# Altium footprint library RS0104YQ.PcbLib: 3 footprints
Each footprint in its own frame and in the unit in brackets; x right, y up, seen from the top. Pads: shape width x height; smd on the part's side, far side on the other; paste and mask are expansions set on the pad; w line width, h text height; cw(c..) or ccw(c..) is an arc to the next point about the centre after c.
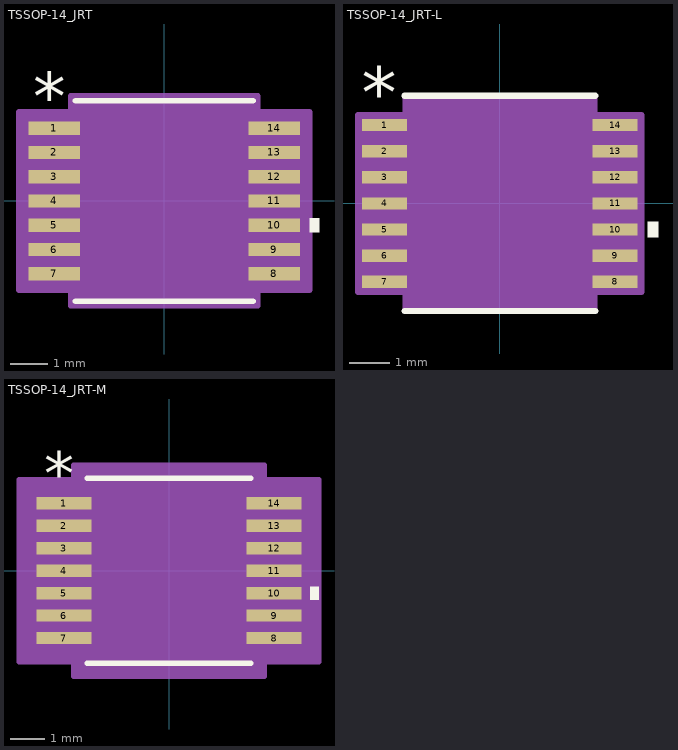
[diagram p0: the footprints below, top view; thin cyan lines are the x and y axes]

## TSSOP-14_JRT [mil]
pads (14):
  rect 54.5x14 smd paste+0 mask+0: 1(-115.75,76.77) 2(-115.75,51.18) 3(-115.75,25.59) 4(-115.75,0) 5(-115.75,-25.59) 6(-115.75,-51.18) 7(-115.75,-76.77) 8(115.75,-76.77) 9(115.75,-51.18) 10(115.75,-25.59) 11(115.75,0) 12(115.75,25.59) 13(115.75,51.18) 14(115.75,76.77)
Top Overlay:
  region: 153,-18.09 163,-18.09 163,-33.09 153,-33.09
  lines w6: -93.5,-105.5 93.5,-105.5 ; -93.5,105.5 93.5,105.5
  text "*" at -138.25,85.77 h50
Mechanical 13:
  lines w0: -12,100.5 ccw(c0,100.5) 12,100.5
  lines w1: -129,-82.77 -129,-70.77 -88.5,-70.77 -88.5,-82.77 -129,-82.77 ; -129,-57.18 -129,-45.18 -88.5,-45.18 -88.5,-57.18 -129,-57.18 ; -129,-31.59 -129,-19.59 -88.5,-19.59 -88.5,-31.59 -129,-31.59 ; -129,-6 -129,6 -88.5,6 -88.5,-6 -129,-6 ; -129,19.59 -129,31.59 -88.5,31.59 -88.5,19.59 -129,19.59 ; -129,45.18 -129,57.18 -88.5,57.18 -88.5,45.18 -129,45.18 ; -129,70.77 -129,82.77 -88.5,82.77 -88.5,70.77 -129,70.77 ; -88.5,-100.5 88.5,-100.5 88.5,100.5 -88.5,100.5 -88.5,-100.5 ; 88.5,-82.77 88.5,-70.77 129,-70.77 129,-82.77 88.5,-82.77 ; 88.5,-57.18 88.5,-45.18 129,-45.18 129,-57.18 88.5,-57.18 ; 88.5,-31.59 88.5,-19.59 129,-19.59 129,-31.59 88.5,-31.59 ; 88.5,-6 88.5,6 129,6 129,-6 88.5,-6 ; 88.5,19.59 88.5,31.59 129,31.59 129,19.59 88.5,19.59 ; 88.5,45.18 88.5,57.18 129,57.18 129,45.18 88.5,45.18 ; 88.5,70.77 88.5,82.77 129,82.77 129,70.77 88.5,70.77
  text "*" at -86,47.5 h50
Mechanical 15:
  region: -98.5,-93.77 -153,-93.77 -153,93.77 -98.5,93.77 -98.5,110.5 98.5,110.5 98.5,93.77 153,93.77 153,-93.77 98.5,-93.77 98.5,-110.5 -98.5,-110.5
  lines w6: -153,-93.77 -153,93.77 -98.5,93.77 -98.5,110.5 98.5,110.5 98.5,93.77 153,93.77 153,-93.77 98.5,-93.77 98.5,-110.5 -98.5,-110.5 -98.5,-93.77 -153,-93.77
3D body "TSSOP-14_JRT.step": height 47.09, standoff 0, extent -129.02,-100.51 129.02,100.51

## TSSOP-14_JRT-L [mil]
pads (14):
  rect 44x12 smd paste+0 mask+0: 1(-113,76.77) 2(-113,51.18) 3(-113,25.59) 4(-113,0) 5(-113,-25.59) 6(-113,-51.18) 7(-113,-76.77) 8(113,-76.77) 9(113,-51.18) 10(113,-25.59) 11(113,0) 12(113,25.59) 13(113,51.18) 14(113,76.77)
Top Overlay:
  region: 145,-18.09 155,-18.09 155,-33.09 145,-33.09
  lines w6: -93.5,-105.5 93.5,-105.5 ; -93.5,105.5 93.5,105.5
  text "*" at -135.5,83.77 h50
Mechanical 13:
  lines w0: -12,100.5 ccw(c0,100.5) 12,100.5
  lines w1: -129,-82.77 -129,-70.77 -88.5,-70.77 -88.5,-82.77 -129,-82.77 ; -129,-57.18 -129,-45.18 -88.5,-45.18 -88.5,-57.18 -129,-57.18 ; -129,-31.59 -129,-19.59 -88.5,-19.59 -88.5,-31.59 -129,-31.59 ; -129,-6 -129,6 -88.5,6 -88.5,-6 -129,-6 ; -129,19.59 -129,31.59 -88.5,31.59 -88.5,19.59 -129,19.59 ; -129,45.18 -129,57.18 -88.5,57.18 -88.5,45.18 -129,45.18 ; -129,70.77 -129,82.77 -88.5,82.77 -88.5,70.77 -129,70.77 ; -88.5,-100.5 88.5,-100.5 88.5,100.5 -88.5,100.5 -88.5,-100.5 ; 88.5,-82.77 88.5,-70.77 129,-70.77 129,-82.77 88.5,-82.77 ; 88.5,-57.18 88.5,-45.18 129,-45.18 129,-57.18 88.5,-57.18 ; 88.5,-31.59 88.5,-19.59 129,-19.59 129,-31.59 88.5,-31.59 ; 88.5,-6 88.5,6 129,6 129,-6 88.5,-6 ; 88.5,19.59 88.5,31.59 129,31.59 129,19.59 88.5,19.59 ; 88.5,45.18 88.5,57.18 129,57.18 129,45.18 88.5,45.18 ; 88.5,70.77 88.5,82.77 129,82.77 129,70.77 88.5,70.77
  text "*" at -86,47.5 h50
Mechanical 15:
  region: -92.5,-86.77 -139,-86.77 -139,86.77 -92.5,86.77 -92.5,104.5 92.5,104.5 92.5,86.77 139,86.77 139,-86.77 92.5,-86.77 92.5,-104.5 -92.5,-104.5
  lines w6: -139,-86.77 -139,86.77 -92.5,86.77 -92.5,104.5 92.5,104.5 92.5,86.77 139,86.77 139,-86.77 92.5,-86.77 92.5,-104.5 -92.5,-104.5 -92.5,-86.77 -139,-86.77
3D body "TSSOP-14_JRT.step": height 47.09, standoff 0, extent -129.02,-100.51 129.02,100.51

## TSSOP-14_JRT-M [mil]
pads (14):
  rect 62.5x14 smd paste+0 mask+0: 1(-119.75,76.77) 2(-119.75,51.18) 3(-119.75,25.59) 4(-119.75,0) 5(-119.75,-25.59) 6(-119.75,-51.18) 7(-119.75,-76.77) 8(119.75,-76.77) 9(119.75,-51.18) 10(119.75,-25.59) 11(119.75,0) 12(119.75,25.59) 13(119.75,51.18) 14(119.75,76.77)
Top Overlay:
  region: 161,-18.09 171,-18.09 171,-33.09 161,-33.09
  lines w6: -93.5,-105.5 93.5,-105.5 ; -93.5,105.5 93.5,105.5
  text "*" at -142.25,85.77 h50
Mechanical 13:
  lines w0: -12,100.5 ccw(c0,100.5) 12,100.5
  lines w1: -129,-82.77 -129,-70.77 -88.5,-70.77 -88.5,-82.77 -129,-82.77 ; -129,-57.18 -129,-45.18 -88.5,-45.18 -88.5,-57.18 -129,-57.18 ; -129,-31.59 -129,-19.59 -88.5,-19.59 -88.5,-31.59 -129,-31.59 ; -129,-6 -129,6 -88.5,6 -88.5,-6 -129,-6 ; -129,19.59 -129,31.59 -88.5,31.59 -88.5,19.59 -129,19.59 ; -129,45.18 -129,57.18 -88.5,57.18 -88.5,45.18 -129,45.18 ; -129,70.77 -129,82.77 -88.5,82.77 -88.5,70.77 -129,70.77 ; -88.5,-100.5 88.5,-100.5 88.5,100.5 -88.5,100.5 -88.5,-100.5 ; 88.5,-82.77 88.5,-70.77 129,-70.77 129,-82.77 88.5,-82.77 ; 88.5,-57.18 88.5,-45.18 129,-45.18 129,-57.18 88.5,-57.18 ; 88.5,-31.59 88.5,-19.59 129,-19.59 129,-31.59 88.5,-31.59 ; 88.5,-6 88.5,6 129,6 129,-6 88.5,-6 ; 88.5,19.59 88.5,31.59 129,31.59 129,19.59 88.5,19.59 ; 88.5,45.18 88.5,57.18 129,57.18 129,45.18 88.5,45.18 ; 88.5,70.77 88.5,82.77 129,82.77 129,70.77 88.5,70.77
  text "*" at -86,47.5 h50
Mechanical 15:
  region: -108.5,-103.77 -171,-103.77 -171,103.77 -108.5,103.77 -108.5,120.5 108.5,120.5 108.5,103.77 171,103.77 171,-103.77 108.5,-103.77 108.5,-120.5 -108.5,-120.5
  lines w6: -171,-103.77 -171,103.77 -108.5,103.77 -108.5,120.5 108.5,120.5 108.5,103.77 171,103.77 171,-103.77 108.5,-103.77 108.5,-120.5 -108.5,-120.5 -108.5,-103.77 -171,-103.77
3D body "TSSOP-14_JRT.step": height 47.09, standoff 0, extent -129.02,-100.51 129.02,100.51